# Altium footprint library DC-10YWA.PcbLib: 1 footprints
Each footprint in its own frame and in the unit in brackets; x right, y up, seen from the top. Pads: shape width x height; smd on the part's side, far side on the other; paste and mask are expansions set on the pad; w line width, h text height; cw(c..) or ccw(c..) is an arc to the next point about the centre after c.
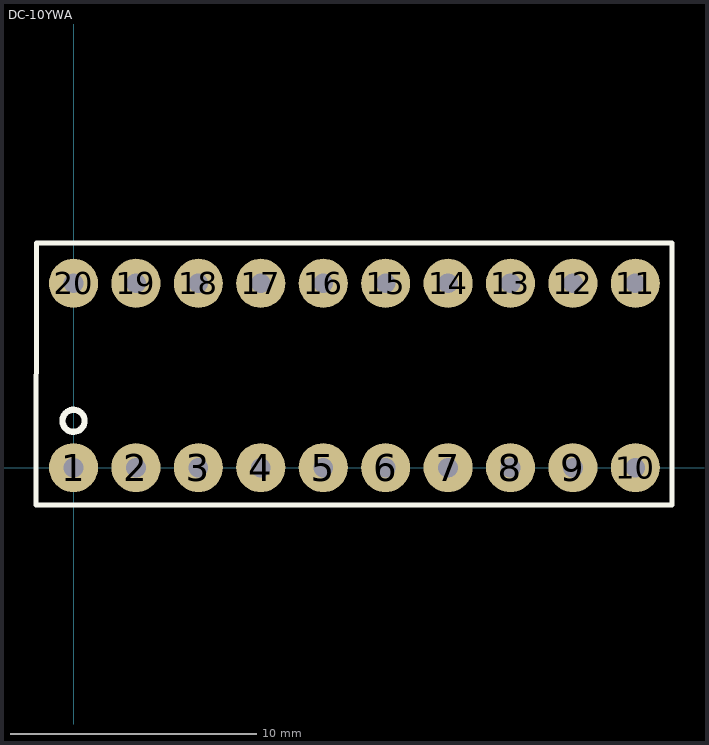
[diagram p0: the footprint, top view; thin cyan lines are the x and y axes]

## DC-10YWA [mm]
pads (20):
  round 2 hole 0.8: 1(0,0) 2(2.54,0) 3(5.08,0) 4(7.62,0) 5(10.16,0) 6(12.7,0) 7(15.24,0) 8(17.78,0) 9(20.32,0) 10(22.86,0) 11(22.86,7.5) 12(20.32,7.5) 13(17.78,7.5) 14(15.24,7.5) 15(12.7,7.5) 16(10.16,7.5) 17(7.62,7.5) 18(5.08,7.5) 19(2.54,7.5) 20(0,7.5)
Top Overlay:
  circle w0.254: c0,1.905 r0.449
  lines w0.2: -1.534,-1.524 24.359,-1.524 24.359,9.144 -1.509,9.144 -1.534,-1.524
3D body "DC-10YWA.step": height 8, standoff -3, extent -1.27,-1.27 24.13,8.89